# EAGLE library part 7PIN (library jst_eh)
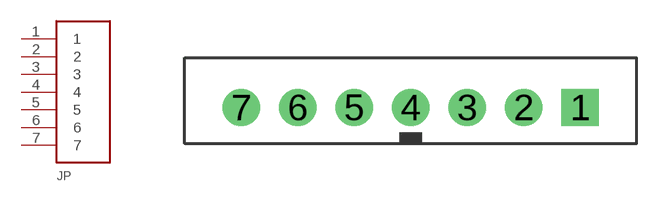
[diagram p1: symbol with the pads of B7B-EH; footprint B7B-EH]

Designator prefix JP

## 7PIN  [B7B-EH]
1  1
2  2
3  3
4  4
5  5
6  6
7  7

## Footprint B7B-EH (pad centres in mm)
drill 1.1 square: 1 7.5,0
drill 1.1: 2 5,0; 3 2.5,0; 4 0,0; 5 -2.5,0; 6 -5,0; 7 -7.5,0